# EAGLE library part SGTL5000XNAA3 (library SamacSys_Parts)
NXP, Audio Codec Stereo Audio 2-channel 24bit- 96kHz Serial-I2C, Serial-SPI 32-Pin QFN Source: Datasheet <http://www.nxp.com/docs/en/data-sheet/SGTL5000.pdf>
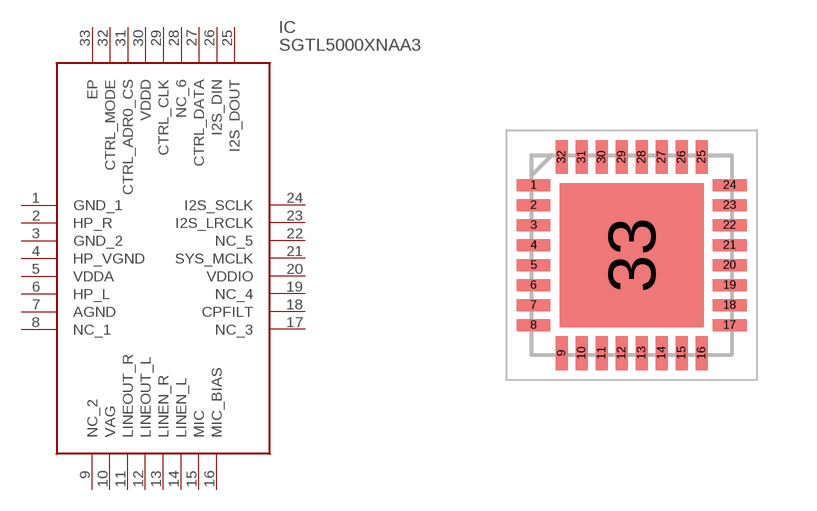
[diagram p5: symbol with the pads of QFN50P500X500X90-33N; footprint QFN50P500X500X90-33N]

Designator prefix IC

## SGTL5000XNAA3 (Description: NXP, Audio Codec Stereo Audio 2-channel 24bit- 96kHz Serial-I2C, Serial-SPI 32-Pin QFN; Height: 0.9mm; Manufacturer_Name: NXP; Manufacturer_Part_Number: SGTL5000XNAA3; Mouser_Part_Number: 841-SGTL5000XNAA3; Mouser_Price-Stock: https://www.mouser.co.uk/ProductDetail/NXP-Semiconductors/SGTL5000XNAA3?qs=g5o6z0NmdpQ52bnp6yi7dA%3D%3D)  [QFN50P500X500X90-33N]
1  GND_1
2  HP_R
3  GND_2
4  HP_VGND
5  VDDA
6  HP_L
7  AGND
8  NC_1
9  NC_2
10  VAG
11  LINEOUT_R
12  LINEOUT_L
13  LINEN_R
14  LINEN_L
15  MIC
16  MIC_BIAS
17  NC_3
18  CPFILT
19  NC_4
20  VDDIO
21  SYS_MCLK
22  NC_5
23  I2S_LRCLK
24  I2S_SCLK
25  I2S_DOUT
26  I2S_DIN
27  CTRL_DATA
28  NC_6
29  CTRL_CLK
30  VDDD
31  CTRL_ADR0_CS
32  CTRL_MODE
33  EP

## Footprint QFN50P500X500X90-33N (pad centres in mm)
32 QFN
smd 0.85 x 0.3: 1 -2.45,1.75; 2 -2.45,1.25; 3 -2.45,0.75; 4 -2.45,0.25; 5 -2.45,-0.25; 6 -2.45,-0.75; 7 -2.45,-1.25; 8 -2.45,-1.75; 17 2.45,-1.75; 18 2.45,-1.25; 19 2.45,-0.75; 20 2.45,-0.25; 21 2.45,0.25; 22 2.45,0.75; 23 2.45,1.25; 24 2.45,1.75
smd 0.3 x 0.85: 9 -1.75,-2.45; 10 -1.25,-2.45; 11 -0.75,-2.45; 12 -0.25,-2.45; 13 0.25,-2.45; 14 0.75,-2.45; 15 1.25,-2.45; 16 1.75,-2.45; 25 1.75,2.45; 26 1.25,2.45; 27 0.75,2.45; 28 0.25,2.45; 29 -0.25,2.45; 30 -0.75,2.45; 31 -1.25,2.45; 32 -1.75,2.45
smd 3.6 x 3.6: 33 0,0